# EAGLE library part LM293AN (library ST_Microelctronics_By_element14_Batch_1)
Low power dual voltage comparators
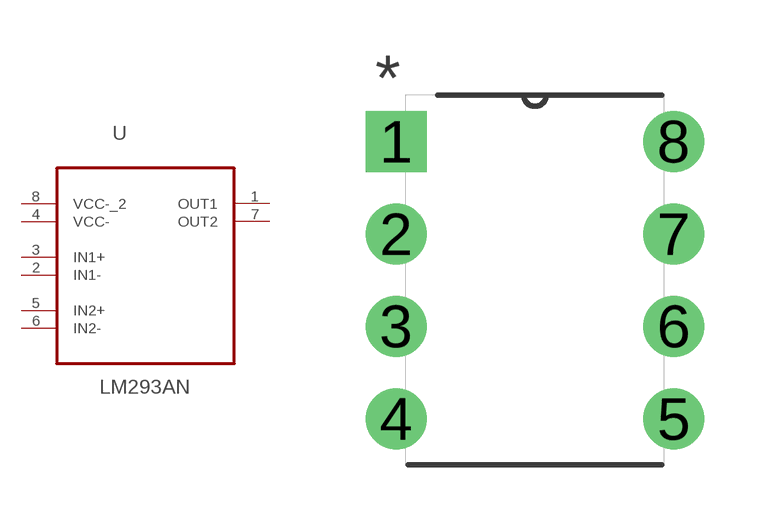
[diagram p106: symbol with the pads of DIP254P762X533-8; footprint DIP254P762X533-8]

Designator prefix U

## LM293AN (MPN: LM293AN; OC_FARNELL: 1842549; OC_NEWARK: 14T3954; PACKAGE: 8-DIP; SUPPLIER: STMICROELECTRONICS)  [DIP254P762X533-8]
1  OUT1  out
2  IN1-  in
3  IN1+  in
4  VCC-  pwr
5  IN2+  in
6  IN2-  in
7  OUT2  out
8  VCC-_2  pwr

## Footprint DIP254P762X533-8 (pad centres in mm)
drill 1.118 square: 1 -7.62,7.62
drill 1.118: 2 -7.62,5.08; 3 -7.62,2.54; 4 -7.62,0; 5 0,0; 6 0,2.54; 7 0,5.08; 8 0,7.62